# EAGLE library part TPA3110D2PWPR (library TPA3110D2PWPR)
15W Filter-Free Class D Stereo Amplifier with SpeakerGuard (TPA3110) Source: Datasheet <http://www.ti.com/lit/gpn/tpa3110d2>
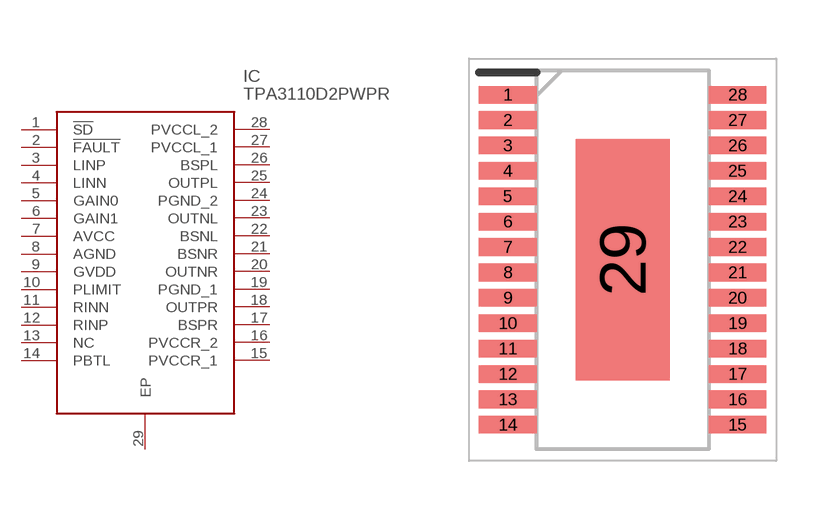
[diagram p0: symbol with the pads of SOP65P640X120-29N; footprint SOP65P640X120-29N]

Designator prefix IC

## TPA3110D2PWPR (Description: 15W Filter-Free Class D Stereo Amplifier with SpeakerGuard (TPA3110); Height: 1.2mm; Manufacturer_Name: Texas Instruments; Manufacturer_Part_Number: TPA3110D2PWPR; Mouser_Part_Number: 595-TPA3110D2PWPR; Mouser_Price-Stock: https://www.mouser.co.uk/ProductDetail/Texas-Instruments/TPA3110D2PWPR?qs=%252BoZa6nMD7VvnY6EEHpn2MA%3D%3D)  [SOP65P640X120-29N]
1  !SD
2  !FAULT
3  LINP
4  LINN
5  GAIN0
6  GAIN1
7  AVCC
8  AGND
9  GVDD
10  PLIMIT
11  RINN
12  RINP
13  NC  nc
14  PBTL
15  PVCCR_1
16  PVCCR_2
17  BSPR
18  OUTPR
19  PGND_1
20  OUTNR
21  BSNR
22  BSNL
23  OUTNL
24  PGND_2
25  OUTPL
26  BSPL
27  PVCCL_1
28  PVCCL_2
29  EP

## Footprint SOP65P640X120-29N (pad centres in mm)
pwp(r-pdso-g28)
smd 1.475 x 0.45: 1 -2.938,4.225; 2 -2.938,3.575; 3 -2.938,2.925; 4 -2.938,2.275; 5 -2.938,1.625; 6 -2.938,0.975; 7 -2.938,0.325; 8 -2.938,-0.325; 9 -2.938,-0.975; 10 -2.938,-1.625; 11 -2.938,-2.275; 12 -2.938,-2.925; 13 -2.938,-3.575; 14 -2.938,-4.225; 15 2.938,-4.225; 16 2.938,-3.575; 17 2.938,-2.925; 18 2.938,-2.275; 19 2.938,-1.625; 20 2.938,-0.975; 21 2.938,-0.325; 22 2.938,0.325; 23 2.938,0.975; 24 2.938,1.625; 25 2.938,2.275; 26 2.938,2.925; 27 2.938,3.575; 28 2.938,4.225
smd 2.4 x 6.17: 29 0,0